# EAGLE library part SN74HC595DWR (library carrilib)
8 Bit Shift Register Manufacturer: TI Part Number: SN74HC595DWR
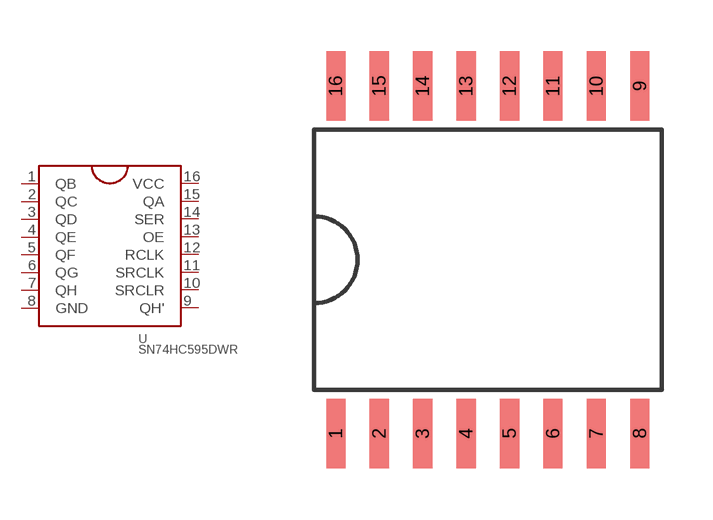
[diagram p19: symbol with the pads of SO16W; footprint SO16W]

Designator prefix U

## SN74HC595DWR  [SO16W]
1  QB
2  QC
3  QD
4  QE
5  QF
6  QG
7  QH
8  GND
9  QH'
10  SRCLR
11  SRCLK
12  RCLK
13  OE
14  SER
15  QA
16  VCC

## Footprint SO16W (pad centres in mm)
smd 0.559 x 2.032: 1 -4.445,-5.08; 2 -3.175,-5.08; 3 -1.905,-5.08; 4 -0.635,-5.08; 5 0.635,-5.08; 6 1.905,-5.08; 7 3.175,-5.08; 8 4.445,-5.08; 9 4.445,5.08; 10 3.175,5.08; 11 1.905,5.08; 12 0.635,5.08; 13 -0.635,5.08; 14 -1.905,5.08; 15 -3.175,5.08; 16 -4.445,5.08